# Altium footprint library PASSIVE_SMD.PCBLIB: 249 footprints (part 9 of 16)
Each footprint in its own frame and in the unit in brackets; x right, y up, seen from the top. Pads: shape width x height; smd on the part's side, far side on the other; paste and mask are expansions set on the pad; w line width, h text height; cw(c..) or ccw(c..) is an arc to the next point about the centre after c.
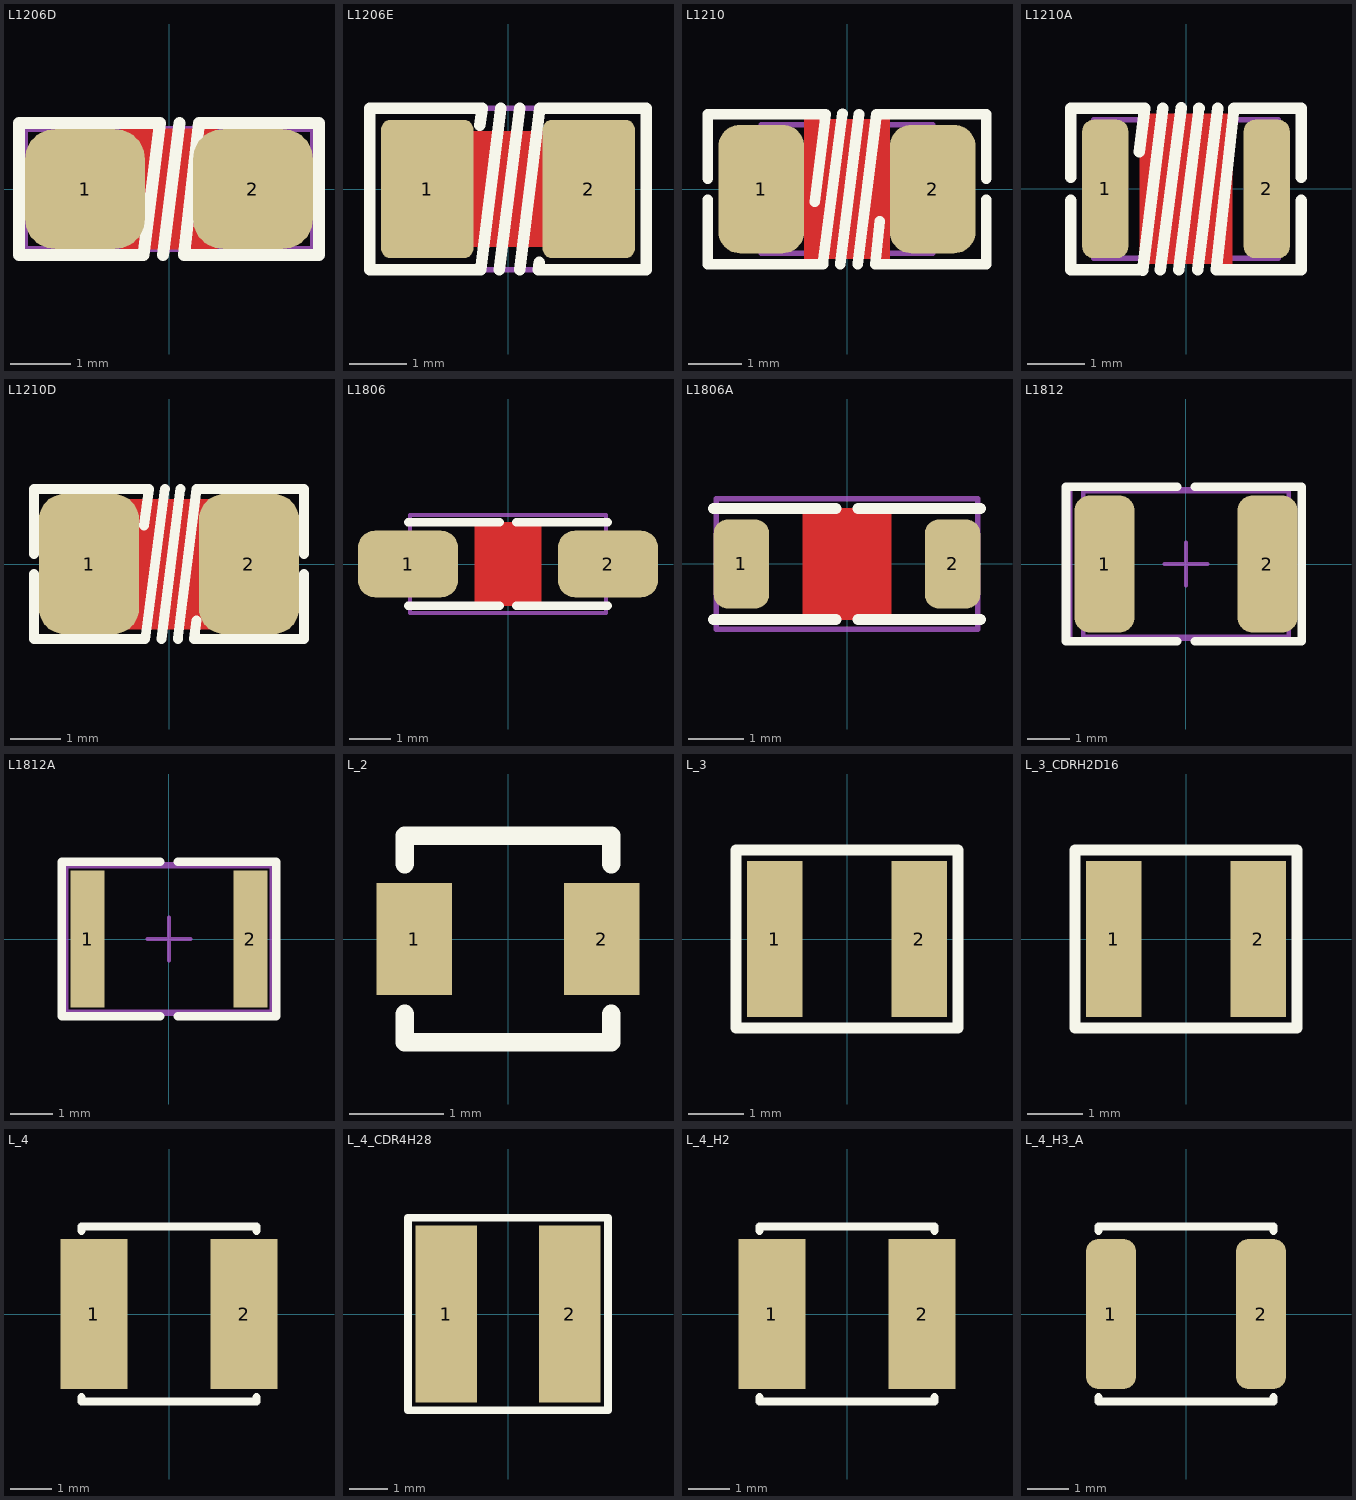
[diagram p8: the footprints below, top view; thin cyan lines are the x and y axes]

## L1206D [mm] "INDUCTOR, FERRITE BEAD, 1206, 3.2X1.6mm, SMD (SolderMask Defined)"
height 2
pads (2):
  rrect50% 2x2 smd paste-1 mask-0.2: 1(-1.4,0) 2(1.4,0)
Top Layer:
  pour cut-out: -0.8,1 -0.8,-1 0.8,-1 0.8,1
Top Overlay:
  lines w0.2: -0.1,-1.1 0.175,1.1 ; -2.5,-1.1 -0.425,-1.1 -0.15,1.1 -2.5,1.1 -2.5,-1.1 ; 0.25,-1.1 0.5,1.1 2.5,1.1 2.5,-1.1 0.25,-1.1
Top Paste:
  region: 0.7,-0.1 0.7,0.1 0.7,0.219 0.791,0.44 0.96,0.609 1.181,0.7 1.3,0.7 1.8,0.7 1.86,0.7 1.97,0.654 2.054,0.57 2.1,0.46 2.1,0.4 2.1,-0.4 2.1,-0.46 2.054,-0.57 1.97,-0.654 1.86,-0.7 1.8,-0.7 1.3,-0.7 1.181,-0.7 0.96,-0.609 0.791,-0.44 0.7,-0.219
  region: -0.7,-0.1 -0.7,0.1 -0.7,0.219 -0.791,0.44 -0.96,0.609 -1.181,0.7 -1.3,0.7 -1.8,0.7 -1.86,0.7 -1.97,0.654 -2.054,0.57 -2.1,0.46 -2.1,0.4 -2.1,-0.4 -2.1,-0.46 -2.054,-0.57 -1.97,-0.654 -1.86,-0.7 -1.8,-0.7 -1.3,-0.7 -1.181,-0.7 -0.96,-0.609 -0.791,-0.44 -0.7,-0.219
Mechanical 13:
  lines w0.1: -1.6,-0.8 -1.6,0.8 1.6,0.8 1.6,-0.8 -1.6,-0.8
Mechanical 15:
  lines w0.1: -0.5,0 0.5,0 ; 0,-0.5 0,0.5 ; -2.4,-1 -2.4,1 2.4,1 2.4,-1 -2.4,-1
3D body "User Library-ind_1206.step": height 1.1, standoff 0, extent -1.6,-0.8 1.6,0.8

## L1206E [mm] "INDUCTOR, FERRITE BEAD, 1206, EXPANDED PAD"
height 2
pads (2):
  rrect20% 1.6x2.4 smd paste-0.8 mask+0.075: 1(-1.4,0) 2(1.4,0)
Top Layer:
  pour cut-out: -0.8,1 -0.8,-1 0.8,-1 0.8,1
Top Overlay:
  lines w0.2: -0.492,1.102 -0.45,1.4 -2.4,1.4 -2.4,-1.4 -0.475,-1.4 -0.125,1.4 ; -0.15,-1.4 0.2,1.4 ; 0.2,-1.4 0.55,1.4 2.4,1.4 2.4,-1.4 0.525,-1.4 0.54,-1.274
Top Paste:
  region: -0.7,-0.2 -0.7,0.25 -0.7,0.359 -0.784,0.562 -0.938,0.716 -1.141,0.8 -1.25,0.8 -1.95,0.8 -1.99,0.8 -2.063,0.77 -2.12,0.713 -2.15,0.64 -2.15,0.6 -2.15,-0.55 -2.15,-0.59 -2.12,-0.663 -2.063,-0.72 -1.99,-0.75 -1.95,-0.75 -1.25,-0.75 -1.141,-0.75 -0.938,-0.666 -0.784,-0.512 -0.7,-0.309
  region: 0.7,-0.2 0.7,0.25 0.7,0.359 0.784,0.562 0.938,0.716 1.141,0.8 1.25,0.8 1.95,0.8 1.99,0.8 2.063,0.77 2.12,0.713 2.15,0.64 2.15,0.6 2.15,-0.55 2.15,-0.59 2.12,-0.663 2.063,-0.72 1.99,-0.75 1.95,-0.75 1.25,-0.75 1.141,-0.75 0.938,-0.666 0.784,-0.512 0.7,-0.309
Mechanical 13:
  lines w0.1: -1.6,-0.8 1.6,-0.8 1.6,0.8 -1.6,0.8 -1.6,-0.8
Mechanical 15:
  lines w0.1: -0.5,0 0.5,0 ; 0,-0.5 0,0.5 ; -2.4,-1.4 2.4,-1.4 2.4,1.4 -2.4,1.4 -2.4,-1.4
3D body "User Library-ind_1206.step": height 1.1, standoff 0, extent -1.6,-0.8 1.6,0.8

## L1210 [mm] "INDUCTOR, FERRITE BEAD, 1210, 3.2X2.5mm"
pads (2):
  rrect50% 1.6x2.4 smd paste-0.1 mask+0.075: 1(-1.6,0) 2(1.6,0)
Top Layer:
  pour cut-out: -0.8,1.3 -0.8,-1.3 0.8,-1.3 0.8,1.3
Top Overlay:
  lines w0.2: -2.6,-0.2 -2.6,-1.4 -0.45,-1.4 -0.085,1.405 ; -2.6,0.2 -2.6,1.4 -0.4,1.4 -0.604,-0.235 ; -0.125,-1.4 0.225,1.4 ; 0.2,-1.4 0.55,1.4 2.6,1.4 2.6,0.2 ; 0.613,-0.602 0.525,-1.4 2.6,-1.4 2.6,-0.2
Mechanical 13:
  lines w0.1: -1.6,-1.2 -1.6,1.2 1.6,1.2 1.6,-1.2 -1.6,-1.2
3D body "User Library-Chip Inductor1210.step": height 1.35, standoff 0, extent -1.6,-1.25 1.6,1.25

## L1210A [mm] "INDUCTOR, FERRITE BEAD, 1210, for PCBA"
pads (2):
  rrect50% 0.8x2.4 smd mask+0.075: 1(-1.4,0) 2(1.4,0)
Top Layer:
  pour cut-out: -0.8,1.3 -0.8,-1.3 0.8,-1.3 0.8,1.3
Top Overlay:
  lines w0.2: -2,-0.2 -2,-1.4 -0.751,-1.4 ; -2,0.2 -2,1.4 -0.717,1.4 ; -0.814,0.645 -0.717,1.396 ; -0.751,-1.406 -0.4,1.4 ; -0.45,-1.4 -0.085,1.405 ; -0.125,-1.4 0.225,1.4 ; 0.2,-1.4 0.55,1.4 ; 0.832,1.396 0.525,-1.4 2,-1.4 2,-0.2 ; 0.832,1.4 2,1.4 2,0.2
Mechanical 13:
  lines w0.1: -1.6,-1.2 -1.6,1.2 1.6,1.2 1.6,-1.2 -1.6,-1.2
3D body "User Library-Chip Inductor1210.step": height 1.35, standoff 0, extent -1.6,-1.25 1.6,1.25

## L1210D [mm] "INDUCTOR, FERRITE BEAD, 1210, 3.2X2.5mm, SMD (SolderMask Defined)"
pads (2):
  rrect50% 2x2.8 smd paste-0.3 mask-0.2: 1(-1.6,0) 2(1.6,0)
Top Layer:
  pour cut-out: -0.8,1.3 -0.8,-1.3 0.8,-1.3 0.8,1.3
Top Overlay:
  lines w0.2: -2.7,-0.2 -2.7,-1.5 -0.475,-1.5 -0.085,1.501 ; -2.7,0.2 -2.7,1.5 -0.4,1.5 -0.5,0.775 ; -0.15,-1.5 0.225,1.5 ; 0.175,-1.5 0.55,1.5 2.7,1.5 2.7,0.2 ; 0.55,-1.125 0.5,-1.5 2.7,-1.5 2.7,-0.2
Mechanical 13:
  lines w0.1: -1.6,-1.2 1.6,-1.2 1.6,1.2 -1.6,1.2 -1.6,-1.2
3D body "User Library-Chip Inductor1210.step": height 1.35, standoff 0, extent -1.6,-1.25 1.6,1.25

## L1806 [mm] "INDUCTOR, FERRITE BEAD, 1806, 4.5X1.6mm"
height 2
pads (2):
  rrect50% 2.4x1.6 smd mask+0.075: 1(-2.4,0) 2(2.4,0)
Top Layer:
  pour cut-out: -0.8,1 -0.8,-1 0.8,-1 0.8,1
Top Overlay:
  lines w0.2: -2.4,-1 -0.2,-1 ; -2.4,1 -0.2,1 ; 0.2,-1 2.4,-1 ; 0.2,1 2.4,1
Mechanical 15:
  lines w0.1: -0.5,0 0.5,0 ; 0,-0.5 0,0.5 ; -2.35,-1.175 -2.35,1.175 2.35,1.175 2.35,-1.175 -2.35,-1.175
3D body: height 1.6, standoff 0, extent -1.55,-0.8 1.55,0.8
3D body: height 1.6, standoff 0, extent -2.25,-0.8 -1.55,0.8
3D body: height 1.6, standoff 0, extent 1.55,-0.8 2.25,0.8

## L1806A [mm] "INDUCTOR, FERRITE BEAD, 1806, 4.5X1.6mm"
height 2
pads (2):
  rrect50% 1x1.6 smd mask+0.075: 1(-1.9,0) 2(1.9,0)
Top Layer:
  pour cut-out: -0.8,1 -0.8,-1 0.8,-1 0.8,1
Top Overlay:
  lines w0.2: -2.4,-1 -0.2,-1 ; -2.4,1 -0.2,1 ; 0.2,-1 2.4,-1 ; 0.2,1 2.4,1
Mechanical 15:
  lines w0.1: -0.5,0 0.5,0 ; 0,-0.5 0,0.5 ; -2.35,-1.175 -2.35,1.175 2.35,1.175 2.35,-1.175 -2.35,-1.175
3D body: height 1.6, standoff 0, extent -1.55,-0.8 1.55,0.8
3D body: height 1.6, standoff 0, extent -2.25,-0.8 -1.55,0.8
3D body: height 1.6, standoff 0, extent 1.55,-0.8 2.25,0.8

## L1812 [mm] "INDUCTOR, 1812, 4.5X3.2mm"
height 0.55
pads (2):
  rrect50% 1.4x3.2 smd: 1(-1.9,0) 2(1.9,0)
Top Overlay:
  lines w0.2: -0.2,-1.8 -2.8,-1.8 -2.8,1.8 -0.2,1.8 ; 0.2,-1.8 2.7,-1.8 2.7,1.8 0.2,1.8
Mechanical 13:
  lines w0.1: -2.4,-1.7 -2.4,1.7 2.4,1.7 2.4,-1.7 -2.4,-1.7
Mechanical 15:
  lines w0.1: -0.5,0 0.5,0 ; 0,-0.5 0,0.5 ; -2.7,-1.75 -2.7,1.75 2.7,1.75 2.7,-1.75 -2.7,-1.75
3D body "INDC4532X175N.STEP": height 1.75, standoff 0, extent -2.25,-1.6 2.25,1.6

## L1812A [mm] "INDUCTOR, 1812, 4.5X3.2mm, for PCBA"
height 0.55
pads (2):
  rect 0.8x3.2 smd: 1(-1.9,0) 2(1.9,0)
Top Overlay:
  lines w0.2: -0.2,-1.8 -2.5,-1.8 -2.5,1.8 -0.2,1.8 ; 0.2,-1.8 2.5,-1.8 2.5,1.8 0.2,1.8
Mechanical 13:
  lines w0.1: -2.4,-1.7 2.4,-1.7 2.4,1.7 -2.4,1.7 -2.4,-1.7
Mechanical 15:
  lines w0.1: -0.5,0 0.5,0 ; 0,-0.5 0,0.5 ; -2.5,-1.75 2.5,-1.75 2.5,1.75 -2.5,1.75 -2.5,-1.75
3D body "INDC4532X175N.STEP": height 1.75, standoff 0, extent -2.25,-1.6 2.25,1.6

## L_2 [mm] "INDUCTOR, 2.0X2.0mm"
pads (2):
  rect 0.8x1.2 smd paste-0.1: 1(-1,0) 2(1,0)
Top Overlay:
  lines w0.2: -1.1,-0.8 -1.1,-1.1 1.1,-1.1 1.1,-0.8 ; -1.1,0.8 -1.1,1.1 1.1,1.1 1.1,0.8
3D body: height 2, standoff 0, extent -1,-1 1,1

## L_3 [mm] "INDUCTOR, 3.0X3.2mm, VLS3012"
pads (2):
  rect 1x2.8 smd paste-0.1 mask+0.1: 1(-1.3,0) 2(1.3,0)
Top Overlay:
  lines w0.2: -2,-1.6 -2,1.6 2,1.6 2,-1.6 -2,-1.6
3D body: height 1.2, standoff 0, extent -1.5,-1.5 1.5,1.5

## L_3_CDRH2D16 [mm] "INDUCTOR, 3.0X3.2mm, CDRH2D16"
height 1.6
pads (2):
  rect 1x2.8 smd paste-0.1 mask+0.1: 1(-1.3,0) 2(1.3,0)
Top Overlay:
  lines w0.2: -2,-1.6 2,-1.6 2,1.6 -2,1.6 -2,-1.6
3D body: height 1.2, standoff 0, extent -1.5,-1.5 1.5,1.5

## L_4 [mm] "INDUCTOR, 3.8x3.8mm, 3.7x3.5mm, WURTH 744031470"
height 1.7
pads (2):
  rect 1.6x3.6 smd paste-0.1: 1(-1.8,0) 2(1.8,0)
Top Overlay:
  lines w0.2: -2.1,-2 -2.1,-2.1 2.1,-2.1 2.1,-2 ; -2.1,2 -2.1,2.1 2.1,2.1 2.1,2
3D body: height 1.7, standoff 0, extent -2,-2 2,2

## L_4_CDR4H28 [mm] "INDUCTOR, 4X4X2.8mm, CDR4H28"
height 2.8
pads (2):
  rect 1.6x4.6 smd paste-0.1: 1(-1.6,0) 2(1.6,0)
Top Overlay:
  lines w0.2: -2.6,-2.5 -2.6,2.5 2.6,2.5 2.6,-2.5 -2.6,-2.5
3D body "User Library-CDRH4D28.step": height 2.91, standoff 0, extent -2.45,-2.45 2.45,2.45

## L_4_H2 [mm] "INDUCTOR, 4.1X4.1X2.1mm, VLCF4020"
height 2.1
pads (2):
  rect 1.6x3.6 smd paste-0.1: 1(-1.8,0) 2(1.8,0)
Top Overlay:
  lines w0.2: -2.1,-2 -2.1,-2.1 2.1,-2.1 2.1,-2 ; -2.1,2 -2.1,2.1 2.1,2.1 2.1,2
3D body "User Library-VLCF4020.step": height 2, standoff 0, extent -2.05,-2 2.05,2

## L_4_H3_A [mm] "INDUCTOR, 4X4X2.8mm"
height 2.8
pads (2):
  rrect50% 1.2x3.6 smd paste-0.1: 1(-1.8,0) 2(1.8,0)
Top Overlay:
  lines w0.2: -2.1,-2 -2.1,-2.1 2.1,-2.1 2.1,-2 ; -2.1,2 -2.1,2.1 2.1,2.1 2.1,2
3D body "User Library-VLCF4020.step": height 2, standoff 0, extent -2.05,-2 2.05,2